# Altium schematic symbol library Connectors.SchLib: 19 symbols
Pins are listed as number, name and electrical type; pins without a type are passive.

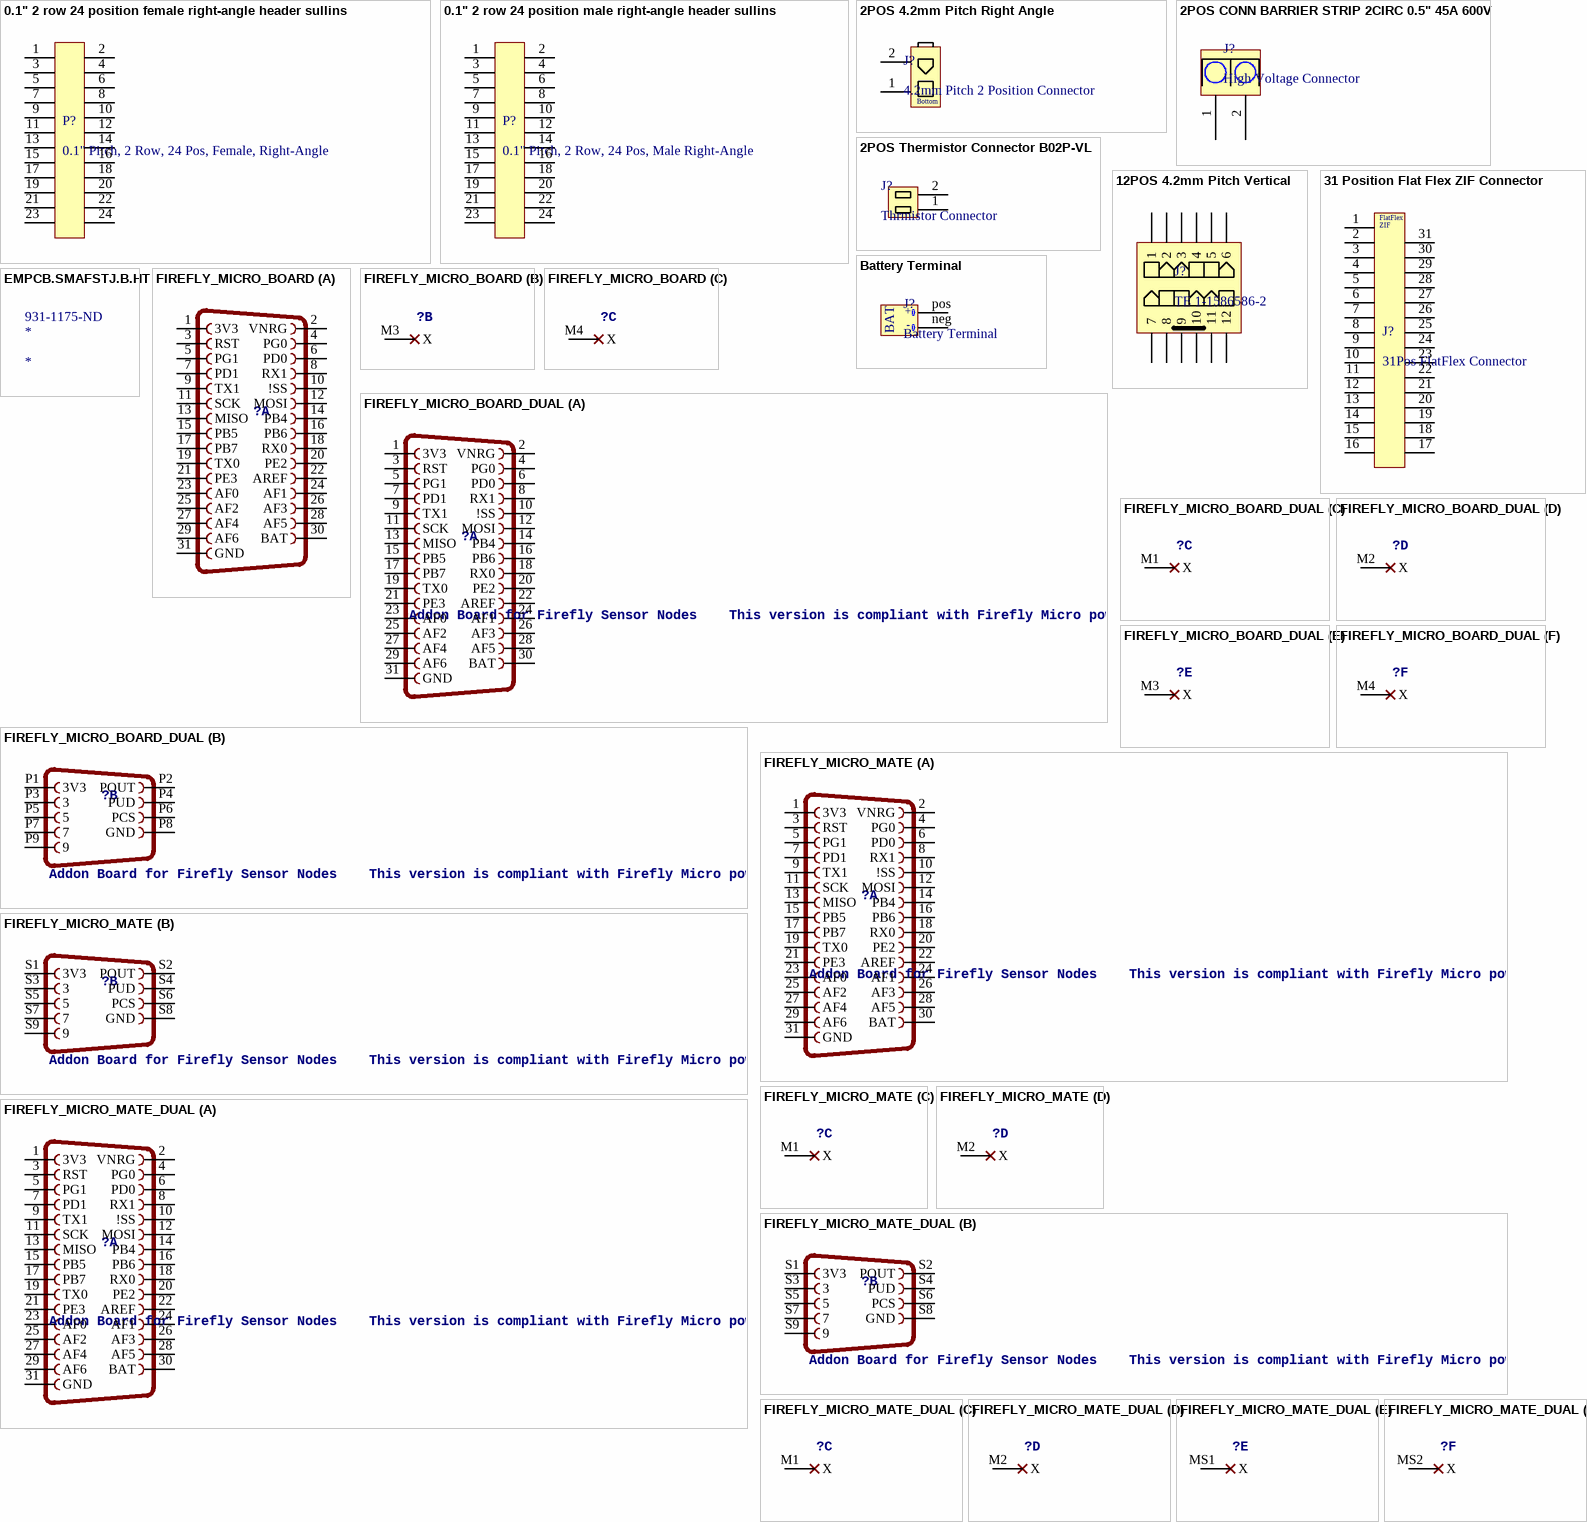
[diagram p0: symbols 0.1" 2 row 24 position female right-angle header sullins to FIREFLY_MICRO_MATE_DUAL]

## 0.1" 2 row 24 position female right-angle header sullins
designator P?, comment 0.1" Pitch, 2 Row, 24 Pos, Female, Right-Angle
Sullins 0.1" 2 row 24 position female right-angle header; Rows: 2; Positions: 24; Pitch: 2.54mm; Supplier 1: Digi-Key; Supplier 2: Digi-Key; Supplier Part Number 1: S5526-ND; Supplier Part Number 2: S5565-ND; Gender: Female
footprint 0.1 inch 2 row 24 pos female right-angle header Sullins (Sullins 0.1" Dual row 24 position female right-angle header)
pins: 1, 2, 3, 4, 5, 6, 7, 8, 9, 10, 11, 12, 13, 14, 15, 16, 17, 18, 19, 20, 21, 22, 23, 24

## 0.1" 2 row 24 position male right-angle header sullins
designator P?, comment 0.1" Pitch, 2 Row, 24 Pos, Male Right-Angle
Sullins 0.1" 2 row 24 position male right-angle header; Rows: 2; Positions: 24; Pitch: 2.54mm; Gender: Male; Supplier 1: Digi-Key; Supplier Part Number 1: S2112EC-12-ND
footprint 0.1 inch 2 row 24 pos male right-angle header Sullins (Sullins 0.1" Dual row 24 position male right-angle header)
pins: 1, 2, 3, 4, 5, 6, 7, 8, 9, 10, 11, 12, 13, 14, 15, 16, 17, 18, 19, 20, 21, 22, 23, 24

## 2POS 4.2mm Pitch Right Angle
designator J?, comment 4.2mm Pitch 2 Position Connector
TE 1586043-2 - 2position 4.2mm pitch right angle with screw support; Positions: 2; Supplier 1: Digi-Key; Supplier Part Number 1: A30626-ND
footprint 2POS 4.2MM PITCH RIGHT ANGLE (2position 4.2mm picth right angle with screw support (TE 1586043-2))
pins: 1 Bottom, 2 Top

## 2POS CONN BARRIER STRIP 2CIRC 0.5" 45A 600V
designator J?, comment High Voltage Connector
MOLEX  0386608802; URL: http://www.mouser.com/ProductDetail/Molex/38660-8802/?qs=sGAEpiMZZMsntO7gZZwOWBznzzIjRi3IH61qEmgvOKA%3d; Supplier 1: Digi-Key; Supplier Part Number 1: WM4395-ND
footprint 2POS Barrier Block Terminal (CONN BARRIER STRIP 2CIRC 0.5")
pins: 1 (power), 2 (power)

## 2POS Thermistor Connector B02P-VL
designator J?, comment Thrmistor Connector
JST B02P-VL CONN HEADER 2POS VL SERIES TIN; Supplier 1: Digi-Key; Supplier Part Number 1: 455-2361-ND; URL: https://www.digikey.com/products/en?mpart=B02P-VL&v=455
footprint 2POS JST B02P-VL (CONN HEADER 2POS VL SERIES TIN)
pins: 1, 2

## 12POS 4.2mm Pitch Vertical
designator J?, comment TE 1-1586586-2
Supplier 1: Allied; Supplier 2: Digi-Key; Supplier Part Number 1: 70041598; Supplier Part Number 2: 1-1586586-2-ND
footprint 12POS 4.2mm Pitch Vertical (TE Connectivity 1-1586586-2)
pins: 1, 2, 3, 4, 5, 6, 7, 8, 9, 10, 11, 12

## 31 Position Flat Flex ZIF Connector
designator J?, comment 31Pos FlatFlex Connector
TE 3-1734839-1 31 Position Flat Flex ZIF Connector; Positions: 31; Supplier 1: Digi-Key; Supplier Part Number 1: A101346CT-ND
footprint 31 Position Flat Flex ZIF Connector (TE 3-1734839-1 31 Position Flat Flex ZIF Connector)
pins: 1, 2, 3, 4, 5, 6, 7, 8, 9, 10, 11, 12, 13, 14, 15, 16, 17, 18, 19, 20, 21, 22, 23, 24, 25, 26, 27, 28, 29, 30, 31
text: FlatFlex; ZIF

## Battery Terminal
designator J?
footprint Battery Terminal (Battery terminal for the firefly case)
pins: neg, pos
text: +; BAT; -

## EMPCB.SMAFSTJ.B.HT
designator *  Supplier Part Number 1: 931-1175-ND
CONN SMA JACK STR 50OHM EDGE MNT; Manufacturer: Taoglas Limited; Manufacturer Part Number: EMPCB.SMAFSTJ.B.HT; Connector Type: Jack, Female Socket; Contact Termination: Solder; Frequency - Max: 12.4GHz; Body Material: Brass; Body Finish: Gold; Dielectric Material: Polytetrafluoroethylene (PTFE); Voltage Rating: 335V; Supplier 1: Digi-Key; RoHS: RoHS Compliant; Category: Connectors, Interconnects; Stock 1: 10867; Pricing 1: 1=3.22, 100=3.1395, 500=2.9505, 1000=2.75101, 2500=2.55151 (USD); Packaging: Tray; Part Status: Active; Connector Style: SMA; Shield Termination: Solder; Impedance: 50 Ohm; Mounting Type: Board Edge, End Launch; Mounting Feature: -; Cable Group: -; Fastening Type: Threaded; Features: -; Housing Color: Gold; Ingress Protection: -; Includes: -; Center Contact Plating: Gold; Operating Temperature: -; Center Contact Material: Brass; Mating Cycles: -; Insertion Loss: -; ComponentLink1URL: http://www.taoglas.com/wp-content/uploads/2016/01/EMPCB.SMAFSTJ.B.HT_.pdf; ComponentLink1Description: http://www.taoglas.com/wp-content/uploads/2016/01/EMPCB.SMAFSTJ.B.HT_.pdf

## FIREFLY_MICRO_BOARD
designator ?, comment Addon Board for Firefly Sensor Nodes    This version is compliant with Firefly Micro powered by Atmel Atmega128RFA1.    Connectors on female gender match those on Firefly Micro Board.    Connectors on male gender mate with Firefly Micro Board. Use these for addons.  (value not drawn)
GENDER: Female
footprint FIREFLY_MICRO_BOARD
part A pins: 1 3V3 (power), 2 VNRG (power), 3 RST, 4 PG0, 5 PG1, 6 PD0, 7 PD1, 8 RX1, 9 TX1, 10 !SS, 11 SCK, 12 MOSI, 13 MISO, 14 PB4, 15 PB5, 16 PB6, 17 PB7, 18 RX0, 19 TX0, 20 PE2, 21 PE3, 22 AREF, 23 AF0, 24 AF1, 25 AF2, 26 AF3, 27 AF4, 28 AF5, 29 AF6, 30 BAT, 31 GND (power)
part B pins: M3 X
part C pins: M4 X

## FIREFLY_MICRO_BOARD_DUAL
designator ?, comment Addon Board for Firefly Sensor Nodes    This version is compliant with Firefly Micro powered by Atmel Atmega128RFA1.    Connectors on female gender match those on Firefly Micro Board.    Connectors on male gender mate with Firefly Micro Board. Use these for addons.
GENDER: Female
footprint FIREFLY_MICRO_BOARD_DUAL
part A pins: 1 3V3 (power), 2 VNRG (power), 3 RST, 4 PG0, 5 PG1, 6 PD0, 7 PD1, 8 RX1, 9 TX1, 10 !SS, 11 SCK, 12 MOSI, 13 MISO, 14 PB4, 15 PB5, 16 PB6, 17 PB7, 18 RX0, 19 TX0, 20 PE2, 21 PE3, 22 AREF, 23 AF0, 24 AF1, 25 AF2, 26 AF3, 27 AF4, 28 AF5, 29 AF6, 30 BAT, 31 GND (power)
part B pins: P1 3V3 (power), P2 POUT, P3 3, P4 PUD, P5 5, P6 PCS, P7 7, P8 GND (power), P9 9
part C pins: M1 X
part D pins: M2 X
part E pins: M3 X
part F pins: M4 X

## FIREFLY_MICRO_MATE
designator ?, comment Addon Board for Firefly Sensor Nodes    This version is compliant with Firefly Micro powered by Atmel Atmega128RFA1.    Connectors on female gender match those on Firefly Micro Board.    Connectors on male gender mate with Firefly Micro Board. Use these for addons.
GENDER: Male
footprint FIREFLY_MICRO_MATE
part A pins: 1 3V3 (power), 2 VNRG (power), 3 RST, 4 PG0, 5 PG1, 6 PD0, 7 PD1, 8 RX1, 9 TX1, 10 !SS, 11 SCK, 12 MOSI, 13 MISO, 14 PB4, 15 PB5, 16 PB6, 17 PB7, 18 RX0, 19 TX0, 20 PE2, 21 PE3, 22 AREF, 23 AF0, 24 AF1, 25 AF2, 26 AF3, 27 AF4, 28 AF5, 29 AF6, 30 BAT, 31 GND (power)
part B pins: S1 3V3 (power), S2 POUT, S3 3, S4 PUD, S5 5, S6 PCS, S7 7, S8 GND (power), S9 9
part C pins: M1 X
part D pins: M2 X

## FIREFLY_MICRO_MATE_DUAL
designator ?, comment Addon Board for Firefly Sensor Nodes    This version is compliant with Firefly Micro powered by Atmel Atmega128RFA1.    Connectors on female gender match those on Firefly Micro Board.    Connectors on male gender mate with Firefly Micro Board. Use these for addons.
GENDER: Male
footprint FIREFLY_MICRO_MATE_DUAL
part A pins: 1 3V3 (power), 2 VNRG (power), 3 RST, 4 PG0, 5 PG1, 6 PD0, 7 PD1, 8 RX1, 9 TX1, 10 !SS, 11 SCK, 12 MOSI, 13 MISO, 14 PB4, 15 PB5, 16 PB6, 17 PB7, 18 RX0, 19 TX0, 20 PE2, 21 PE3, 22 AREF, 23 AF0, 24 AF1, 25 AF2, 26 AF3, 27 AF4, 28 AF5, 29 AF6, 30 BAT, 31 GND (power)
part B pins: S1 3V3 (power), S2 POUT, S3 3, S4 PUD, S5 5, S6 PCS, S7 7, S8 GND (power), S9 9
part C pins: M1 X
part D pins: M2 X
part E pins: MS1 X
part F pins: MS2 X

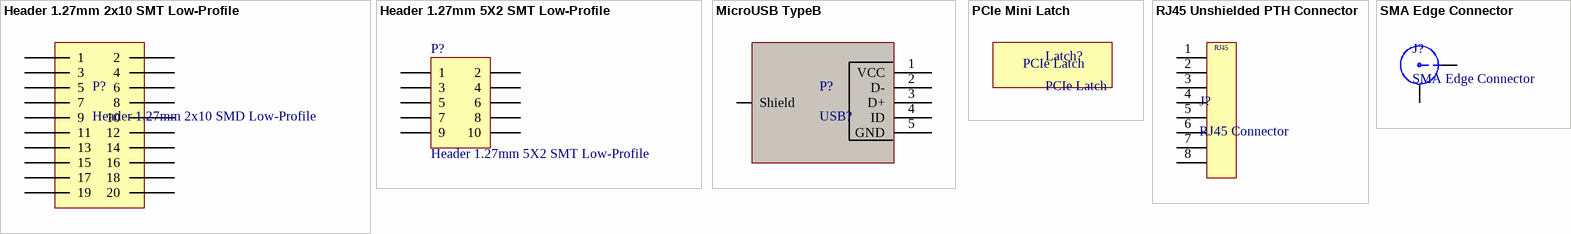
[diagram p1: symbols Header 1.27mm 2x10 SMT Low-Profile to SMA Edge Connector]

## Header 1.27mm 2x10 SMT Low-Profile
designator P?, comment Header 1.27mm 2x10 SMD Low-Profile
Samtec FTS-110-01-F-DV; Supplier 1: Digi-Key; Supplier 2: Digi-Key; Supplier 3: Arrow; Supplier Part Number 1: 952-1392-ND; Supplier Part Number 2: SAM1156-10-ND; Supplier Part Number 3: mMp2K35HmoOBAvP8h0vzxquLIfNLS04cnHgimgmyAQw
footprint Header 1.27mm 2x10 SMT Low-Profile (Samtec FTS-110-01-F-DV 1.27mm surface mount header with 20 positions)
pins: 1, 2, 3, 4, 5, 6, 7, 8, 9, 10, 11, 12, 13, 14, 15, 16, 17, 18, 19, 20

## Header 1.27mm 5X2 SMT Low-Profile
designator P?
Header, 5-Pin, Dual row, Right Angle; LatestRevisionDate: 17-Jul-2002; LatestRevisionNote: Re-released for DXP Platform.; Publisher: Altium Limited; Supplier 1: Digi-Key; Supplier 2: Newark; Supplier 3: Allied; Supplier 4: Mouser; Supplier 5: Arrow; Supplier Part Number 1: 609-3695-1-ND; Supplier Part Number 2: 58R3188; Supplier Part Number 3: 70247660; Supplier Part Number 4: 649-202112100010C4LF; Supplier Part Number 5: XRQSqUttyxup-fqyNuPGZKBQalM97QjttTt_8zN-BzU
signal-integrity model Connector
footprint Header 1.27mm 2x5 SMT Low-Profile (Header 1.27mm 5x2 SMD)
pins: 1, 2, 3, 4, 5, 6, 7, 8, 9, 10

## MicroUSB TypeB
designator P?, comment USB?
Micro USB Type B Port; Supplier: http://www.digikey.com/product-detail/en/amphenol-fci/10118192-0001LF/609-4613-2-ND/2785387; Datasheet: http://portal.fciconnect.com/Comergent//fci/drawing/10118192.pdf; Supplier 1: Digi-Key; Supplier Part Number 1: 609-4613-1-ND
footprint MicroUSB_TypeB
pins: 0 Shield, 1 VCC "+5VDC", 2 D- "Data -", 3 D+ "Data +", 4 ID "Mode Detect (OTG)", 5 GND "Ground"

## PCIe Mini Latch
designator Latch?, comment PCIe Latch
footprint PCIE MINI Latch (PCIE Mini Latch)

## RJ45 Unshielded PTH Connector
designator J?, comment RJ45 Connector
Amphenol RJ45 Unshielded Through-Hole Connector; Manufacturer: Amphenol FCI; Manufacturer Part Number: 54601-908WPLF; Contact Resistance: 30mR; Current Rating: 1A; Voltage Rating: 1kV; Number of Positions: 8; Number of Ports: 1; Insulation Resistance: 500MR; Direction: Down; Gender: Male; Pitch: 2.54mm; Supplier 1: Digi-Key; Supplier Part Number 1: 609-5081-ND; Supplier 2: Mouser; Stock 2: 0; Pricing 2: 1=0.51, 10=0.377, 50=0.377, 100=0.362, 1000=0.26, 10000=0.212 (USD); Mount: Through Hole; Contact Plating: Nickel,Gold; Contact Material: Bronze,Copper; Colour: Black; Housing Colour: Black; Housing Material: Polyamide; Min Operating Temperature: -65°C; Max Operating Temperature: 125°C; Termination: Through Hole; Orientation: Right Angle; Packaging: Rail/Tube; Shielding: Unshielded; Package Quantity: 200; Number of Rows: 1; Connector Type: RJ45; Number of Contacts: 8; Number of Positions Loaded: 8; Length: 15.24mm; Depth: 18mm; Radiation Hardening: No; REACH SVHC: No SVHC; Lead Free: Lead Free; Flammability Rating: UL94 V-0; ComponentLink1URL: https://datasheet.ciiva.com/9396/c-bmj-0051-9396388.pdf; ComponentLink1Description: https://datasheet.ciiva.com/9396/c-bmj-0051-9396388.pdf; ComponentLink2URL: https://datasheet.ciiva.com/26824/getdatasheetpartid-465238-26824373.pdf; ComponentLink2Description: https://datasheet.ciiva.com/26824/getdatasheetpartid-465238-26824373.pdf; ComponentLink3URL: https://datasheet.ciiva.com/1108/c-bmj-0051-1108424.pdf; ComponentLink3Description: https://datasheet.ciiva.com/1108/c-bmj-0051-1108424.pdf; ComponentLink4URL: https://datasheet.ciiva.com/15058/c-bmj-0051-15058750.pdf; ComponentLink4Description: https://datasheet.ciiva.com/15058/c-bmj-0051-15058750.pdf; ComponentLink5URL: https://datasheet.ciiva.com/16650/c-bmj-0051-16650286.pdf; ComponentLink5Description: https://datasheet.ciiva.com/16650/c-bmj-0051-16650286.pdf; ComponentLink6URL: https://datasheet.ciiva.com/7629/c-bmj-0051-7629183.pdf; ComponentLink6Description: https://datasheet.ciiva.com/7629/c-bmj-0051-7629183.pdf; Supplier Part Number 2: 649-54601-908WPLF
footprint RJ45 Unshielded PTH Connector (Amphenol 54601-908WPLF Unshielded RJ45 PTH Connector)
pins: 1, 2, 3, 4, 5, 6, 7, 8

## SMA Edge Connector
designator J?
Supplier 1: Digi-Key; Supplier 2: Digi-Key; Supplier 3: Digi-Key; Supplier Part Number 1: CON-SMA-EDGE-S-ND; Supplier Part Number 2: 931-1174-ND; Supplier Part Number 3: 931-1175-ND
footprint SMA Connector - Edge Mount (Edge Mount SMA Connector)
footprint SMA Connector - Edge Mount Short (Edge Mount SMA Connector - Shorter Footprint)
pins: 1 Signal, 2 GND